# EAGLE library part FTE-105-01-G-DV (library Board4You)
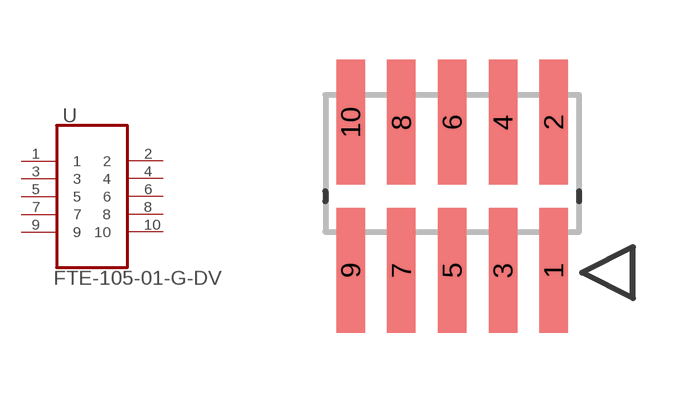
[diagram p17: symbol with the pads of SAMTEC_FTS-105-01-L-DV; footprint SAMTEC_FTS-105-01-L-DV]

Designator prefix -

## FTE-105-01-G-DV  [SAMTEC_FTS-105-01-L-DV]
1  1  pas
2  2  pas
3  3  pas
4  4  pas
5  5  pas
6  6  pas
7  7  pas
8  8  pas
9  9  pas
10  10  pas

## Footprint SAMTEC_FTS-105-01-L-DV (pad centres in mm)
smd 0.711 x 3.124: 1 2.54,-1.854; 2 2.54,1.854; 3 1.27,-1.854; 4 1.27,1.854; 5 0,-1.854; 6 0,1.854; 7 -1.27,-1.854; 8 -1.27,1.854; 9 -2.54,-1.854; 10 -2.54,1.854